# Altium footprint library 电源芯片.PcbLib: 2 footprints
Each footprint in its own frame and in the unit in brackets; x right, y up, seen from the top. Pads: shape width x height; smd on the part's side, far side on the other; paste and mask are expansions set on the pad; w line width, h text height; cw(c..) or ccw(c..) is an arc to the next point about the centre after c.
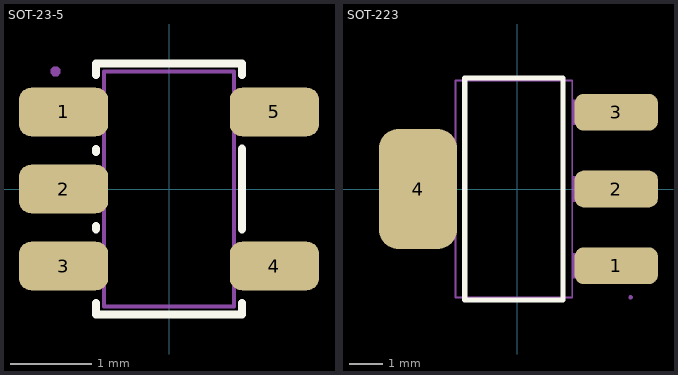
[diagram p0: the footprints below, top view; thin cyan lines are the x and y axes]

## SOT-23-5 [mm]
pads (5):
  rrect50% 1.1x0.6 smd: 1(-1.3,0.95) 2(-1.3,0) 3(-1.3,-0.95) 4(1.3,-0.95) 5(1.3,0.95)
Top Overlay:
  lines w0.1: -0.9,-1.404 -0.9,-1.55 0.9,-1.55 0.9,-1.404 ; -0.9,-0.496 -0.9,-0.454 ; -0.9,0.454 -0.9,0.496 ; -0.9,1.404 -0.9,1.55 0.9,1.55 0.9,1.404 ; 0.9,-0.496 0.9,0.496
Mechanical 15:
  region: 1.4,1.15 1.4,0.75 0.95,0.75 0.95,1.15
  region: 0.96,1.15 0.96,0.75 0.79,0.75 0.79,1.15
  region: 1.4,-0.75 1.4,-1.15 0.95,-1.15 0.95,-0.75
  region: 0.96,-0.75 0.96,-1.15 0.79,-1.15 0.79,-0.75
  region: -0.95,-0.75 -0.95,-1.15 -1.4,-1.15 -1.4,-0.75
  region: -0.79,-0.75 -0.79,-1.15 -0.96,-1.15 -0.96,-0.75
  region: -0.95,0.2 -0.95,-0.2 -1.4,-0.2 -1.4,0.2
  region: -0.79,0.2 -0.79,-0.2 -0.96,-0.2 -0.96,0.2
  region: -0.95,1.15 -0.95,0.75 -1.4,0.75 -1.4,1.15
  region: -0.79,1.15 -0.79,0.75 -0.96,0.75 -0.96,1.15
  region: -1.46,1.45 -1.46,1.425 -1.425,1.39 -1.375,1.39 -1.34,1.425 -1.34,1.45 -1.34,1.475 -1.375,1.51 -1.425,1.51 -1.46,1.475
  lines w0.051: -0.8,-1.45 -0.8,1.45 0.8,1.45 0.8,-1.45 -0.8,-1.45
3D body "DBV0005A.stp": height 1.2, standoff 0, extent -1.4,-1.45 1.4,1.45

## SOT-223 [mm]
pads (4):
  rrect50% 2.5x1.1 smd: 1(2.97,-2.3) 2(2.97,0) 3(2.97,2.3)
  rrect50% 2.34x3.6 smd: 4(-2.97,0)
Top Overlay:
  lines w0.152: -1.571,-3.326 1.371,-3.326 1.371,3.326 -1.571,3.326 -1.571,-3.326
Mechanical 15:
  region: -3.6,-1.5 -3.6,1.5 -2.85,1.5 -2.85,-1.5
  region: -2.86,-1.5 -2.86,1.5 -1.84,1.5 -1.84,-1.5
  region: 2.65,-2.675 2.65,-1.925 3.4,-1.925 3.4,-2.675
  region: 1.64,-2.675 1.64,-1.925 2.66,-1.925 2.66,-2.675
  region: 2.65,-0.375 2.65,0.375 3.4,0.375 3.4,-0.375
  region: 1.64,-0.375 1.64,0.375 2.66,0.375 2.66,-0.375
  region: 2.65,1.925 2.65,2.675 3.4,2.675 3.4,1.925
  region: 1.64,1.925 1.64,2.675 2.66,2.675 2.66,1.925
  region: 3.46,-3.25 3.46,-3.225 3.425,-3.19 3.375,-3.19 3.34,-3.225 3.34,-3.25 3.34,-3.275 3.375,-3.31 3.425,-3.31 3.46,-3.275
  lines w0.051: -1.85,-3.25 1.65,-3.25 1.65,3.25 -1.85,3.25 -1.85,-3.25
3D body "SOT_AMS_ADS.step": height 1.81, standoff 0, extent -3.645,-3.353 3.645,3.353